# Altium footprint library Misc PCB Antenna.PcbLib: 1 footprints
Each footprint in its own frame and in the unit in brackets; x right, y up, seen from the top. Pads: shape width x height; smd on the part's side, far side on the other; paste and mask are expansions set on the pad; w line width, h text height; cw(c..) or ccw(c..) is an arc to the next point about the centre after c.
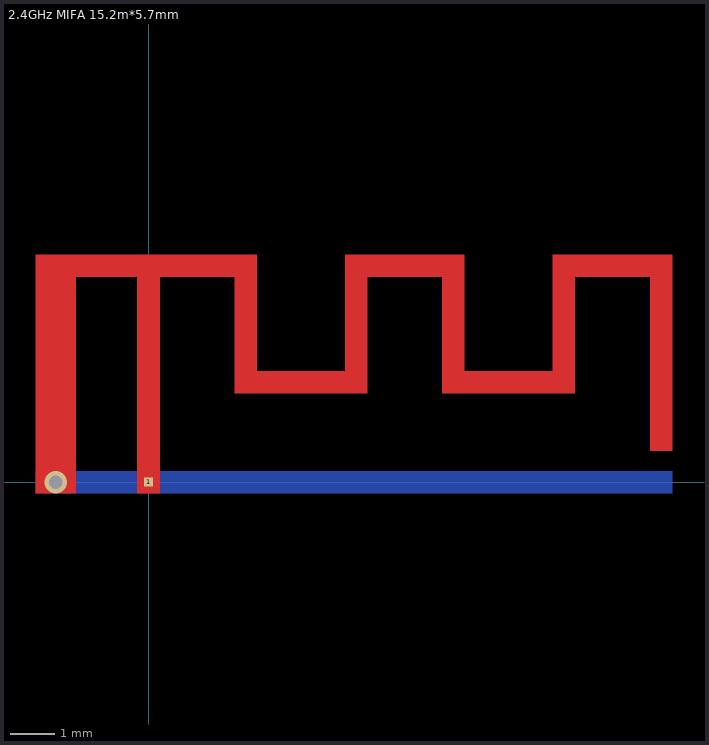
[diagram p0: the footprint, top view; thin cyan lines are the x and y axes]

## 2.4GHz MIFA 15.2m*5.7mm [mm] "Meandered Inverted-F Antenna"
pads (1):
  rect 0.2x0.2 smd paste+0 mask+0: 1(0,0)
via -2.1,-0.004 diameter 0.5 hole 0.3
Top Layer:
  region: -2.55,-0.254 -2.55,5.146 2.45,5.146 2.45,2.506 4.45,2.506 4.45,5.146 7.15,5.146 7.15,2.506 9.15,2.506 9.15,5.146 11.85,5.146 11.85,0.706 11.35,0.706 11.35,4.646 9.65,4.646 9.65,2.006 6.65,2.006 6.65,4.646 4.95,4.646 4.95,2.006 1.95,2.006 1.95,4.646 0.25,4.646 0.25,-0.254 -0.25,-0.254 -0.25,4.646 -1.65,4.646 -1.65,-0.254
Bottom Layer:
  region: -2.55,0.246 -2.55,-0.254 11.85,-0.254 11.85,0.246